# Altium schematic symbol library AP1017.SchLib: 1 symbol
Pins are listed as number, name and electrical type; pins without a type are passive.

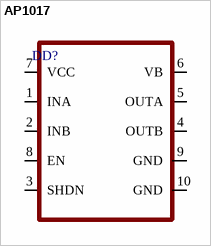
[diagram p0: symbol AP1017]

## AP1017
designator DD?
pins: 1 INA, 2 INB, 3 SHDN, 4 OUTB, 5 OUTA, 6 VB, 7 VCC, 8 EN, 9 GND, 10 GND